# Altium footprint library Vishay Tansitor Footprints.PcbLib: 22 footprints (part 1 of 2)
Each footprint in its own frame and in the unit in brackets; x right, y up, seen from the top. Pads: shape width x height; smd on the part's side, far side on the other; paste and mask are expansions set on the pad; w line width, h text height; cw(c..) or ccw(c..) is an arc to the next point about the centre after c.
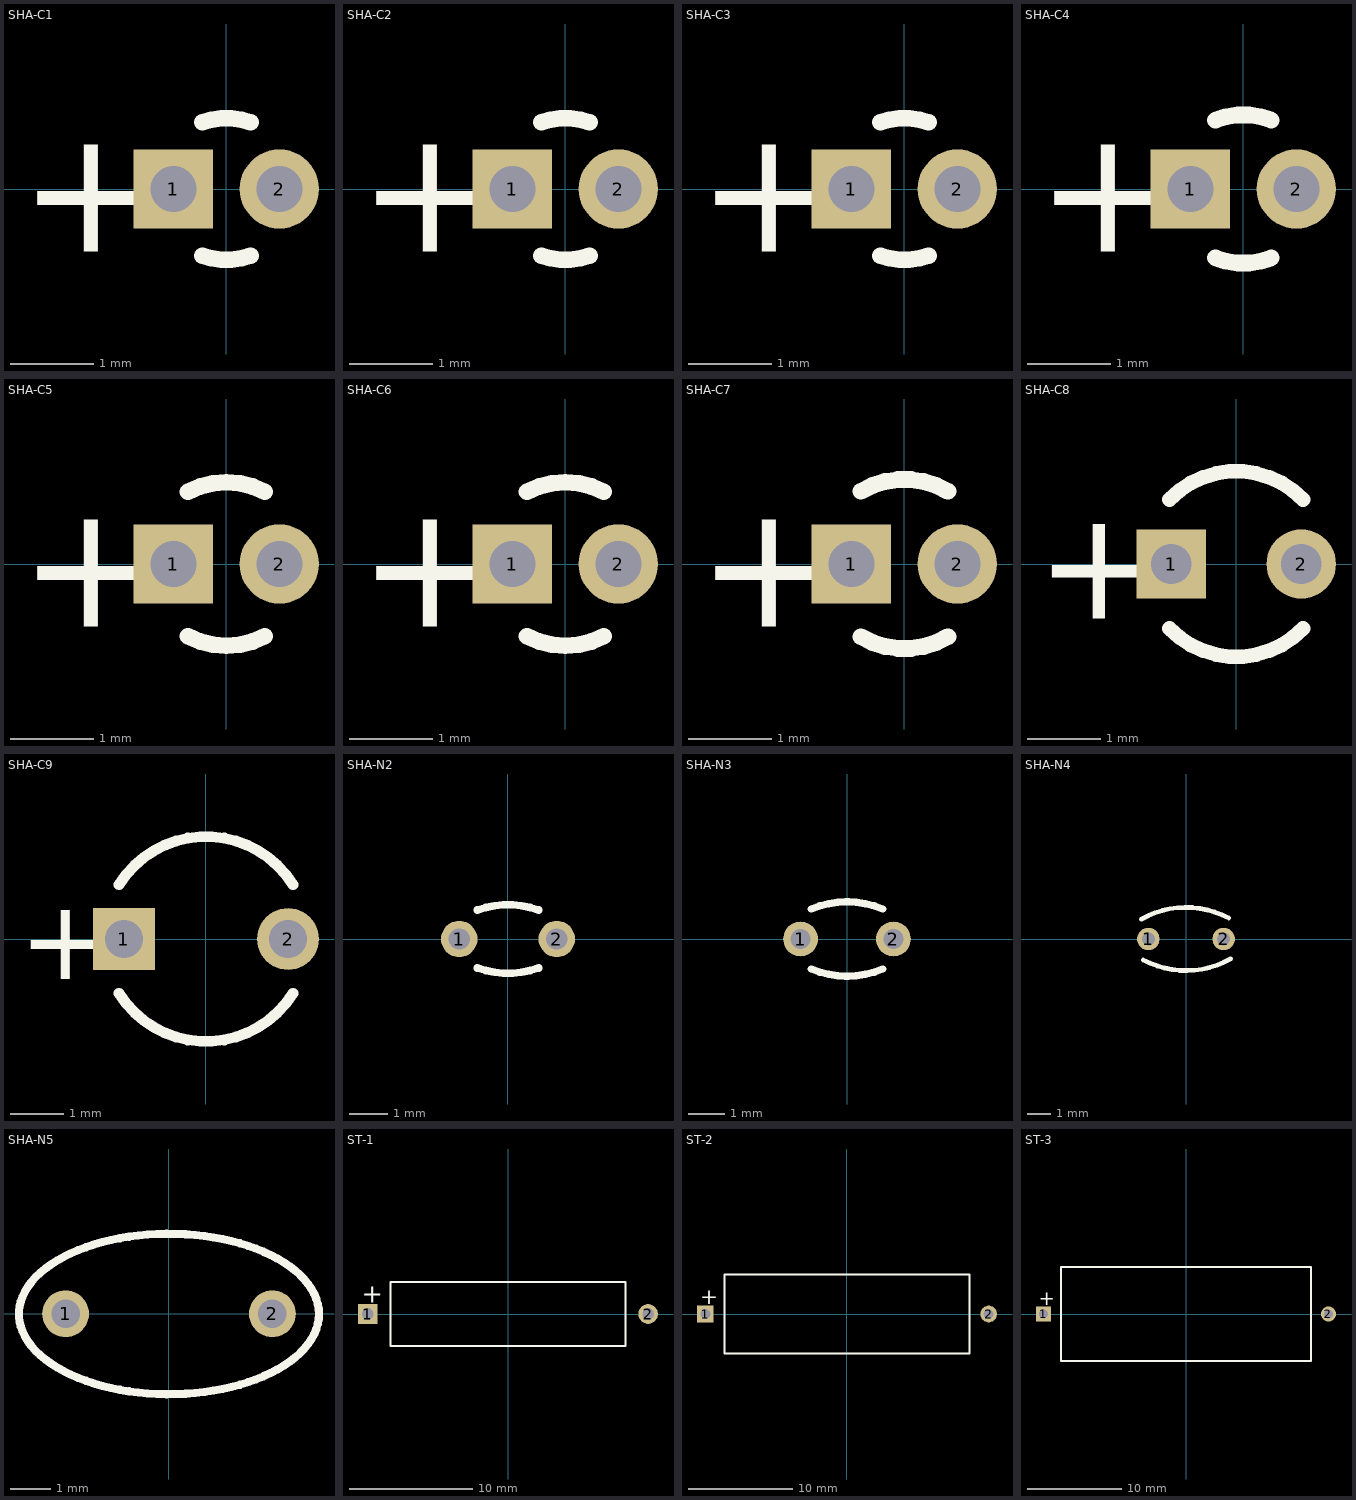
[diagram p0: the footprints below, top view; thin cyan lines are the x and y axes]

## SHA-C1 [mm] "Capacitor, Radial, Tantalum; Body 1.7 x 2.8 mm (Dia.xH max); Pin Spacing 1.27 mm (typ)"
height 2.8
pads (2):
  rect 0.95x0.95 hole 0.55: 1(-0.635,0)
  round 0.95 hole 0.55: 2(0.635,0)
Top Overlay:
  lines w0.2: -0.291,-0.799 ccw(c0,0) 0.291,-0.799 ; -0.291,0.799 cw(c0,0) 0.291,0.799
  text "+" at -2.485,-0.75 h1.5

## SHA-C2 [mm] "Capacitor, Radial, Tantalum; Body 1.7 x 3.18 mm (Dia.xH max); Pin Spacing 1.27 mm (typ)"
height 3.18
pads (2):
  rect 0.95x0.95 hole 0.55: 1(-0.635,0)
  round 0.95 hole 0.55: 2(0.635,0)
Top Overlay:
  lines w0.2: -0.291,-0.799 ccw(c0,0) 0.291,-0.799 ; -0.291,0.799 cw(c0,0) 0.291,0.799
  text "+" at -2.485,-0.75 h1.5

## SHA-C3 [mm] "Capacitor, Radial, Tantalum; Body 1.7 x 3.68 mm (Dia.xH max); Pin Spacing 1.27 mm (typ)"
height 3.68
pads (2):
  rect 0.95x0.95 hole 0.55: 1(-0.635,0)
  round 0.95 hole 0.55: 2(0.635,0)
Top Overlay:
  lines w0.2: -0.291,-0.799 ccw(c0,0) 0.291,-0.799 ; -0.291,0.799 cw(c0,0) 0.291,0.799
  text "+" at -2.485,-0.75 h1.5

## SHA-C4 [mm] "Capacitor, Radial, Tantalum; Body 1.78 x 4.06 mm (Dia.xH max); Pin Spacing 1.27 mm (typ)"
height 4.06
pads (2):
  rect 0.95x0.95 hole 0.55: 1(-0.635,0)
  round 0.95 hole 0.55: 2(0.635,0)
Top Overlay:
  lines w0.2: -0.333,-0.825 ccw(c0,0) 0.333,-0.825 ; -0.333,0.825 cw(c0,0) 0.333,0.825
  text "+" at -2.485,-0.75 h1.5

## SHA-C5 [mm] "Capacitor, Radial, Tantalum; Body 1.96 x 4.06 mm (Dia.xH max); Pin Spacing 1.27 mm (typ)"
height 4.06
pads (2):
  rect 0.95x0.95 hole 0.55: 1(-0.635,0)
  round 0.95 hole 0.55: 2(0.635,0)
Top Overlay:
  lines w0.2: -0.46,-0.865 ccw(c0,0) 0.46,-0.865 ; -0.46,0.865 cw(c0,0) 0.46,0.865
  text "+" at -2.485,-0.75 h1.5

## SHA-C6 [mm] "Capacitor, Radial, Tantalum; Body 1.96 x 4.83 mm (Dia.xH max); Pin Spacing 1.27 mm (typ)"
height 4.83
pads (2):
  rect 0.95x0.95 hole 0.55: 1(-0.635,0)
  round 0.95 hole 0.55: 2(0.635,0)
Top Overlay:
  lines w0.2: -0.46,-0.865 ccw(c0,0) 0.46,-0.865 ; -0.46,0.865 cw(c0,0) 0.46,0.865
  text "+" at -2.485,-0.75 h1.5

## SHA-C7 [mm] "Capacitor, Radial, Tantalum; Body 2.03 x 5.08 mm (Dia.xH max); Pin Spacing 1.27 mm (typ)"
height 5.08
pads (2):
  rect 0.95x0.95 hole 0.55: 1(-0.635,0)
  round 0.95 hole 0.55: 2(0.635,0)
Top Overlay:
  lines w0.2: -0.523,-0.87 ccw(c0,0) 0.523,-0.87 ; -0.523,0.87 cw(c0,0) 0.523,0.87
  text "+" at -2.485,-0.75 h1.5

## SHA-C8 [mm] "Capacitor, Radial, Tantalum; Body 2.54 x 5.72 mm (Dia.xH max); Pin Spacing 1.78 mm (typ)"
height 5.72
pads (2):
  rect 0.95x0.95 hole 0.55: 1(-0.89,0)
  round 0.95 hole 0.55: 2(0.89,0)
Top Overlay:
  lines w0.2: -0.914,-0.882 ccw(c0,0) 0.914,-0.882 ; -0.914,0.882 cw(c0,0) 0.914,0.882
  text "+" at -2.74,-0.75 h1.5

## SHA-C9 [mm] "Capacitor, Radial, Tantalum; Body 3.81 x 6.35 mm (Dia.xH max); Pin Spacing 3.05 mm (typ)"
height 6.35
pads (2):
  rect 1.15x1.15 hole 0.7: 1(-1.525,0)
  round 1.15 hole 0.7: 2(1.525,0)
Top Overlay:
  lines w0.2: -1.616,-1.009 ccw(c0,0) 1.616,-1.009 ; -1.616,1.009 cw(c0,0) 1.616,1.009
  text "+" at -3.475,-0.75 h1.5

## SHA-N2 [mm] "Capacitor, Radial, Tantalum, Non-Polarised; Body 3.05 x 1.78 x 4.06 mm (WxTxH max); Pin Spacing 2.54 mm (typ)"
height 4.06
pads (2):
  round 0.95 hole 0.55: 1(-1.27,0) 2(1.27,0)
Top Overlay:
  lines w0.2: -0.8,-0.753 ccw(c0,1.507) 0.8,-0.753 ; -0.8,0.753 cw(c0,-1.507) 0.8,0.753 ; -0.053,-0.89 0.041,-0.89 ; -0.041,0.89 0.053,0.89

## SHA-N3 [mm] "Capacitor, Radial, Tantalum, Non-Polarised; Body 3.56 x 2.03 x 5.08 mm (WxTxH max); Pin Spacing 2.54 mm (typ)"
height 5.08
pads (2):
  round 0.95 hole 0.55: 1(-1.27,0) 2(1.27,0)
Top Overlay:
  lines w0.2: -0.979,-0.82 ccw(c0,1.543) 0.979,-0.82 ; -0.979,0.82 cw(c0,-1.543) 0.979,0.82 ; -0.053,-1.015 0.041,-1.015 ; -0.041,1.015 0.053,1.015

## SHA-N4 [mm] "Capacitor, Radial, Tantalum, Non-Polarised; Body 4.83 x 2.67 x 5.97 mm (WxTxH max); Pin Spacing 3.18 mm (typ)"
height 5.97
pads (2):
  round 0.95 hole 0.55: 1(-1.59,0) 2(1.59,0)
Top Overlay:
  lines w0.2: -1.888,0.838 cw(c0,-2.5) 1.8,0.886 ; -1.8,-0.886 ccw(c0,2.5) 1.888,-0.838 ; -0.02,-1.335 0.02,-1.335 ; -0.02,1.335 0.02,1.335

## SHA-N5 [mm] "Capacitor, Radial, Tantalum, Non-Polarised; Body 7.37 x 3.94 x 6.86 mm (WxTxH max); Pin Spacing 5.08 mm (typ)"
height 6.86
pads (2):
  round 1.15 hole 0.7: 1(-2.54,0) 2(2.54,0)
Top Overlay:
  lines w0.2: -3.684,-0.068 -3.669,-0.193 -3.639,-0.317 -3.595,-0.44 -3.536,-0.561 -3.463,-0.68 -3.377,-0.796 -3.276,-0.909 -3.162,-1.018 -3.036,-1.123 -2.897,-1.224 -2.747,-1.319 -2.586,-1.41 -2.414,-1.495 -2.232,-1.574 -2.042,-1.646 -1.843,-1.712 -1.637,-1.771 -1.424,-1.823 -1.206,-1.868 -0.983,-1.905 -0.755,-1.934 -0.525,-1.956 -0.293,-1.97 -0.059,-1.976 0.175,-1.974 0.408,-1.964 0.639,-1.946 0.868,-1.92 1.094,-1.887 1.314,-1.846 1.53,-1.798 1.74,-1.742 1.942,-1.68 2.137,-1.611 2.323,-1.535 2.5,-1.453 2.666,-1.365 2.822,-1.272 2.967,-1.174 3.099,-1.071 3.219,-0.964 3.327,-0.853 3.42,-0.738 3.5,-0.621 3.566,-0.501 3.618,-0.379 3.655,-0.255 3.677,-0.131 3.684,-0.006 3.677,0.119 3.655,0.244 3.618,0.367 3.566,0.489 3.5,0.609 3.42,0.726 3.327,0.841 3.219,0.952 3.099,1.059 2.967,1.162 2.822,1.26 2.666,1.354 2.5,1.441 2.323,1.523 2.137,1.599 1.942,1.668 1.74,1.731 1.53,1.786 1.314,1.834 1.094,1.875 0.868,1.909 0.639,1.934 0.408,1.952 0.175,1.962 -0.059,1.964 -0.293,1.958 -0.525,1.944 -0.755,1.922 -0.983,1.893 -1.206,1.856 -1.424,1.811 -1.637,1.759 -1.843,1.7 -2.042,1.634 -2.232,1.562 -2.414,1.483 -2.586,1.398 -2.747,1.308 -2.897,1.212 -3.036,1.111 -3.162,1.006 -3.276,0.897 -3.377,0.784 -3.463,0.668 -3.536,0.549 -3.595,0.428 -3.639,0.305 -3.669,0.181 -3.684,0.057 -3.684,-0.068

## ST-1 [mm] "Capacitor, Axial, Polarised; Body 12.3 x 5.2 mm (LxDia. max), Lead Dia. 0.66 mm (typ)"
height 5.2
pads (2):
  rect 1.6x1.6 hole 0.95: 1(-11.39,0)
  round 1.6 hole 0.95: 2(11.39,0)
Top Overlay:
  lines w0.2: -9.55,-2.6 -9.55,2.6 9.55,2.6 9.55,-2.6 -9.55,-2.6
  text "+" at -11.89,0.925 h1.5

## ST-2 [mm] "Capacitor, Axial, Polarised; Body 17.1 x 7.5 mm (LxDia. max), Lead Dia. 0.66 mm (typ)"
height 7.6
pads (2):
  rect 1.6x1.6 hole 0.95: 1(-13.59,0)
  round 1.6 hole 0.95: 2(13.59,0)
Top Overlay:
  lines w0.2: -11.75,-3.8 11.75,-3.8 11.75,3.8 -11.75,3.8 -11.75,-3.8
  text "+" at -14.09,0.925 h1.5

## ST-3 [mm] "Capacitor, Axial, Polarised; Body 20.2 x 9.9 mm (LxDia. max), Lead Dia. 0.66 mm (typ)"
height 10
pads (2):
  rect 1.6x1.6 hole 0.95: 1(-15.14,0)
  round 1.6 hole 0.95: 2(15.14,0)
Top Overlay:
  lines w0.2: -13.3,-5 -13.3,5 13.3,5 13.3,-5 -13.3,-5
  text "+" at -15.64,0.925 h1.5